# Altium schematic symbol library PCB_Project1.SCHLIB: 29 symbols
Pins are listed as number, name and electrical type; pins without a type are passive.

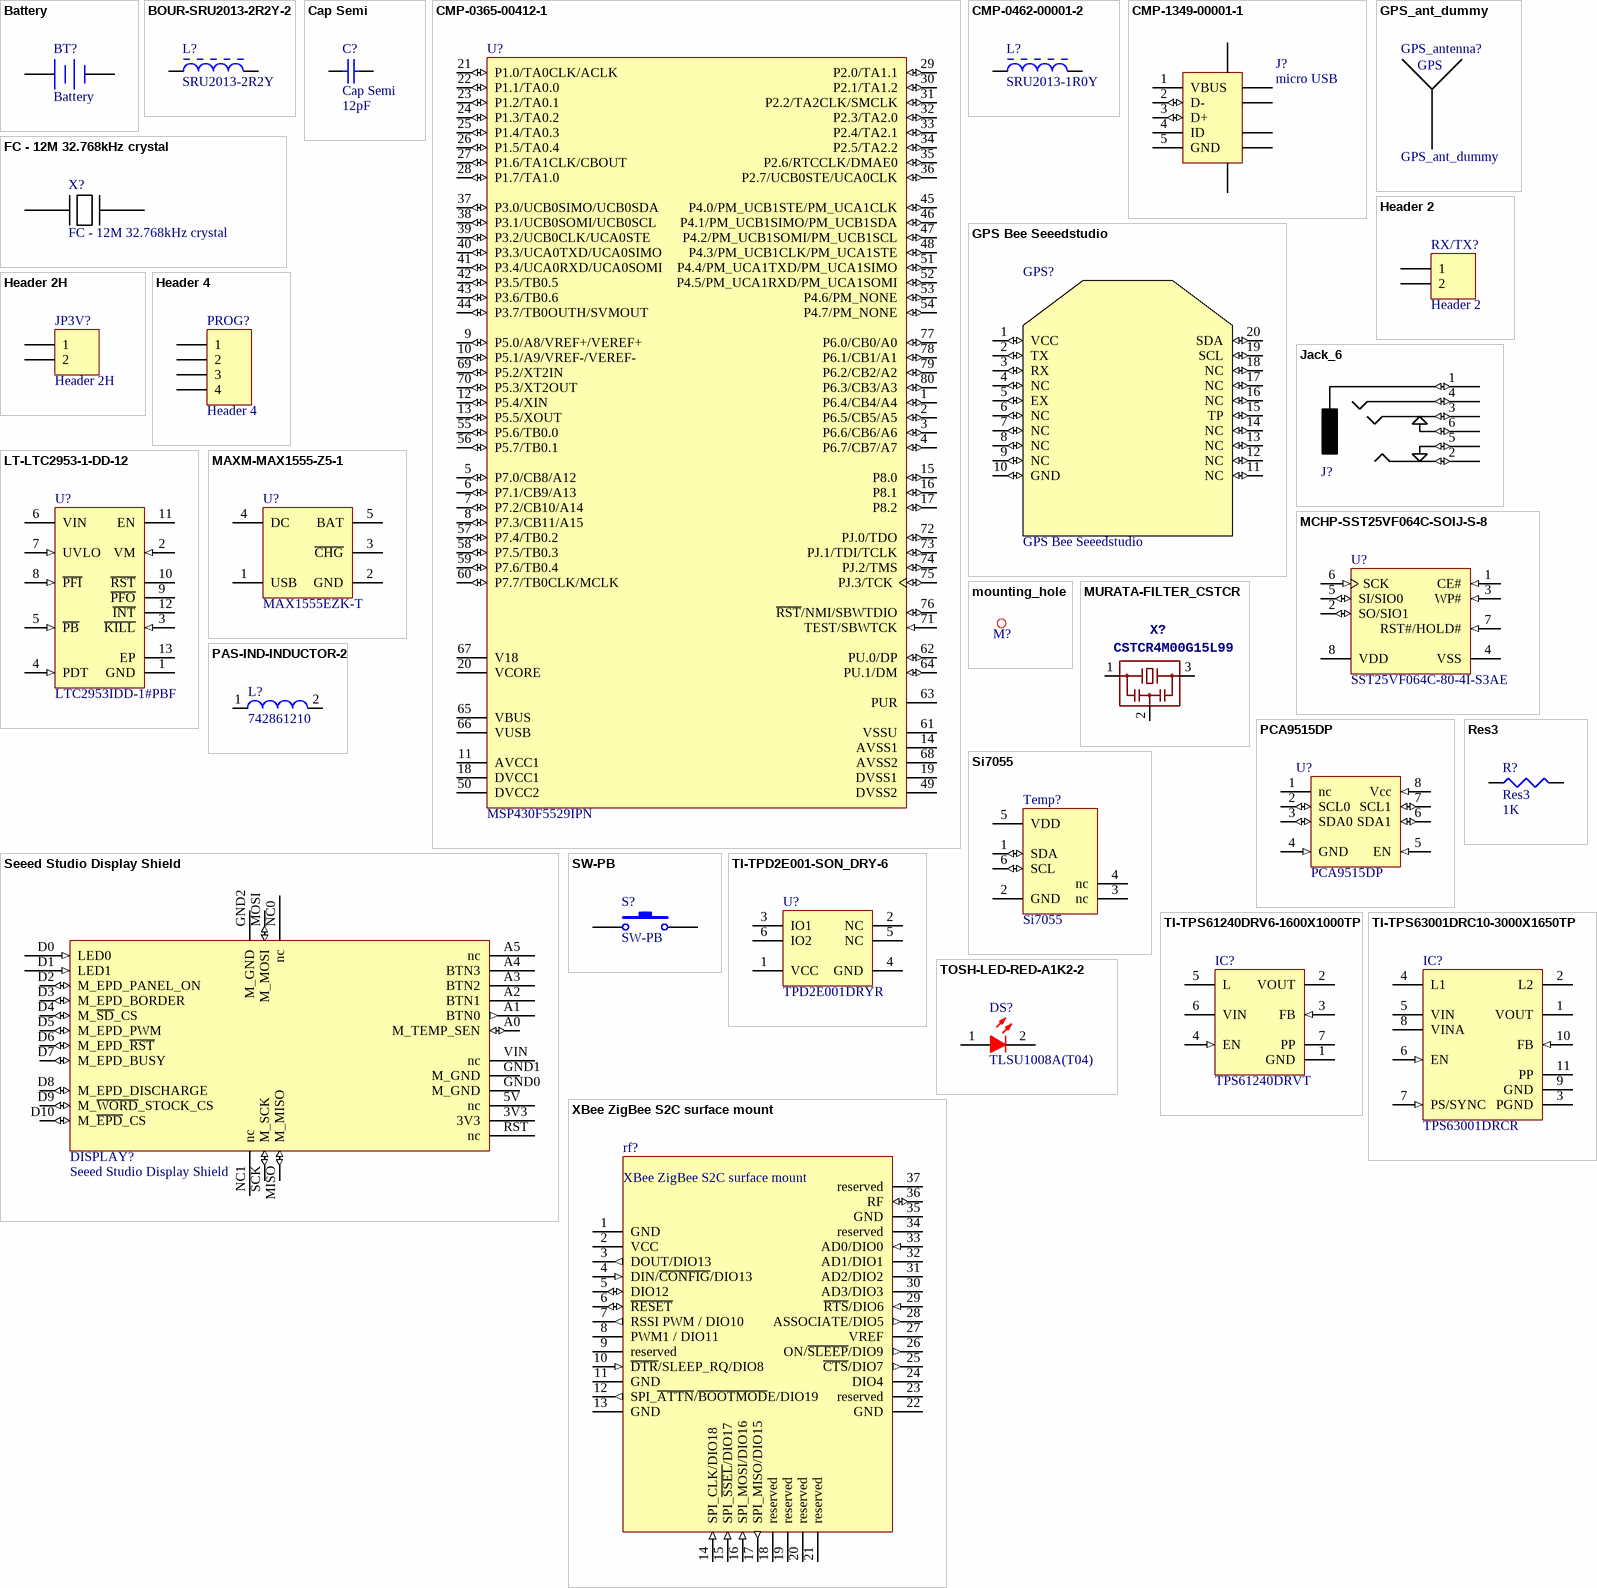
[diagram p0: symbols Battery to XBee ZigBee S2C surface mount]

## Battery
designator BT?
Multicell Battery; Published: 24-Mar-1999; LatestRevisionDate: 17-Jul-2002; LatestRevisionNote: Re-released for DXP Platform.; PackageReference: BAT-2; Publisher: Altium Limited; PackageDescription: Battery; 2 Leads
footprint BAT-2 (Battery; 2 Leads)
pins: 1 +, 2 -

## BOUR-SRU2013-2R2Y-2
designator L?, comment SRU2013-2R2Y
Power Inductor, 2.2 µH, 1.45 Irms Max(A), SMD; Manufacturer: Bourns; Frequency - Self Resonant: 100 MHz; Tolerance: +/-30%; Current Rating: 1.45 A; Inductance: 2.2 uH; DC Resistance (DCR): 120 mOhm Max; Current - Saturation: 950 mA; ComponentLink3URL: http://www.bourns.com/data/global/pdfs/SRU2013.pdf; DatasheetVersion: 2/13/2013; PartNumber: SRU2013-2R2Y; PackageDescription: 2-Pin Hand Drawn, Body 2.8 x 2.8 mm; ComponentLink2URL: http://www.bourns.com/data/global/pdfs/SRU2013.pdf; Mounting Technology: Surface Mount; PackageReference: SRU2013-2R2Y-2; ComponentLink3Description: Package Specification; Operating Temperature: -40 to 125 degC; ComponentLink1URL: http://www.bourns.com; ComponentLink2Description: Datasheet; ComponentLink1Description: Manufacturer URL
footprint BOUR-SRU2013-2R2Y-2_V (Hand Drawn, 2-Leads, Body 2.8x2.8mm)
pins: 1, 2

## Cap Semi
designator C?  value 12pF
Capacitor (Semiconductor SIM Model); Published: 8-Jun-2000; LatestRevisionDate: 29-May-2009; LatestRevisionNote: IPC-7351 Footprint Added.; PackageReference: C1206; Publisher: Altium Limited; PackageDescription: Chip Capacitor
footprint C1206 (Chip Capacitor, Body 3.2x1.6mm, IPC High Density)
footprint 0402 (Chip Capacitor, Body 1.0x0.5mm, IPC High Density)
footprint C2512 (Chip Capacitor, Body 2.54x1.27mm, IPC High Density)
footprint 1608[0603] (Chip Capacitor, Body 1.6x0.8mm, IPC High Density)
footprint C1210 (Chip Capacitor, Body 3.2x2.5mm, IPC High Density)
simulation model CAP (Semiconductor Capacitor)
signal-integrity model Cap Semi
pins: 1, 2

## CMP-0365-00412-1
designator U?, comment MSP430F5529IPN
25 MHz Mixed Signal Microcontroller with 128 KB Flash, 8192 B SRAM and 63 GPIOs, -40 to 85 degC, 80-pin QFP (PN), Green (RoHS & no Sb/Br); Manufacturer: Texas Instruments; Real-Time Clock: Yes; Multiplier: 32x32; Frequency(MHz): 25; USCI_A (UART/LIN/IrDA/SPI): 2; SubFamily: 5 Series; Timers - 16-bit: 4; ADC Channels: 16; GPIO: 63; SRAM(B): 8192; DMA: 3; ADC: 12-bit SAR; Flash(KB): 128; USB: 1; Code_JEDEC: MS-018; ComponentLink1URL: http://www.ti.com/; ComponentLink2URL: http://www.ti.com/general/docs/lit/getliterature.tsp?genericPartNumber=MSP430F5529&fileType=pdf; Brown Out Reset: Yes; SVS: Yes; ComponentLink2Description: Datasheet; Comparators: Yes; ComponentLink3Description: Package Specification; ComponentLink1Description: Manufacturer URL; PackageDescription: 80-Pin Plastic Quad Flat Pack, Body 12 x 12 mm, Pitch 0.5 mm; PartNumber: MSP430F5529IPN; USCI_B (I2C & SPI): 2; PackageReference: PN80; Watchdog: Yes; Temp Sensor: Yes; Eco-Plan: Green (RoHS & no Sb/Br); ComponentLink3URL: http://www.ti.com/lit/ml/mtqf010a/mtqf010a.pdf; Mounting Technology: Surface Mount; DatasheetVersion: SLAS590I
footprint TI-PN80_N (QFP, 80-Leads, Body 12x12mm, Pitch 0.5mm, IPC Medium Density)
pins: 1 P6.4/CB4/A4 (io), 2 P6.5/CB5/A5 (io), 3 P6.6/CB6/A6 (io), 4 P6.7/CB7/A7 (io), 5 P7.0/CB8/A12 (io), 6 P7.1/CB9/A13 (io), 7 P7.2/CB10/A14 (io), 8 P7.3/CB11/A15 (io), 9 P5.0/A8/VREF+/VEREF+ (io), 10 P5.1/A9/VREF-/VEREF- (io), 11 AVCC1 (power) "Analog power supply", 12 P5.4/XIN (io), 13 P5.5/XOUT (io), 14 AVSS1 (power) "Analog ground supply", 15 P8.0 (io) "General-purpose digital I/O", 16 P8.1 (io) "General-purpose digital I/O", 17 P8.2 (io) "General-purpose digital I/O", 18 DVCC1 (power) "Digital power supply", 19 DVSS1 (power) "Digital ground supply", 20 VCORE "Regulated core power supply output (internal use only, no external current loading)", 21 P1.0/TA0CLK/ACLK (io), 22 P1.1/TA0.0 (io), 23 P1.2/TA0.1 (io), 24 P1.3/TA0.2 (io), 25 P1.4/TA0.3 (io), 26 P1.5/TA0.4 (io), 27 P1.6/TA1CLK/CBOUT (io), 28 P1.7/TA1.0 (io), 29 P2.0/TA1.1 (io), 30 P2.1/TA1.2 (io), 31 P2.2/TA2CLK/SMCLK (io), 32 P2.3/TA2.0 (io), 33 P2.4/TA2.1 (io), 34 P2.5/TA2.2 (io), 35 P2.6/RTCCLK/DMAE0 (io), 36 P2.7/UCB0STE/UCA0CLK (io), 37 P3.0/UCB0SIMO/UCB0SDA (io), 38 P3.1/UCB0SOMI/UCB0SCL (io), 39 P3.2/UCB0CLK/UCA0STE (io), 40 P3.3/UCA0TXD/UCA0SIMO (io), 41 P3.4/UCA0RXD/UCA0SOMI (io), 42 P3.5/TB0.5 (io), 43 P3.6/TB0.6 (io), 44 P3.7/TB0OUTH/SVMOUT (io), 45 P4.0/PM_UCB1STE/PM_UCA1CLK (io), 46 P4.1/PM_UCB1SIMO/PM_UCB1SDA (io), 47 P4.2/PM_UCB1SOMI/PM_UCB1SCL (io), 48 P4.3/PM_UCB1CLK/PM_UCA1STE (io), 49 DVSS2 (power) "Digital ground supply", 50 DVCC2 (power) "Digital power supply", 51 P4.4/PM_UCA1TXD/PM_UCA1SIMO (io), 52 P4.5/PM_UCA1RXD/PM_UCA1SOMI (io), 53 P4.6/PM_NONE (io), 54 P4.7/PM_NONE (io), 55 P5.6/TB0.0 (io), 56 P5.7/TB0.1 (io), 57 P7.4/TB0.2 (io), 58 P7.5/TB0.3 (io), 59 P7.6/TB0.4 (io), 60 P7.7/TB0CLK/MCLK (io), 61 VSSU (power) "USB PHY ground supply", 62 PU.0/DP (io), 63 PUR "USB pullup resistor pin (open drain). The voltage level at the PUR pin is used to invoke the default USB BSL. Recommended 1-Mohm resistor to ground.", 64 PU.1/DM (io), 65 VBUS (power) "USB LDO input (connect to USB power source)", 66 VUSB (power) "USB LDO output", 67 V18 "USB regulated power (internal use only, no external current loading)", 68 AVSS2 (power) "Analog ground supply", 69 P5.2/XT2IN (io), 70 P5.3/XT2OUT (io), 71 TEST/SBWTCK (in), 72 PJ.0/TDO (io), 73 PJ.1/TDI/TCLK (io), 74 PJ.2/TMS (io), 75 PJ.3/TCK (io), 76 ~{RST}/NMI/SBWTDIO (io), 77 P6.0/CB0/A0 (io), 78 P6.1/CB1/A1 (io), 79 P6.2/CB2/A2 (io), 80 P6.3/CB3/A3 (io)

## CMP-0462-00001-2
designator L?, comment SRU2013-1R0Y
Power Inductor, 2.2 µH, 1.45 Irms Max(A), SMD; PartNumber: SRU2013-2R2Y; Manufacturer: Bourns; Frequency - Self Resonant: 100 MHz; Tolerance: +/-30%; Current Rating: 2 A; Inductance: 1.0 uH; DC Resistance (DCR): 120 mOhm Max; Current - Saturation: 950 mA; ComponentLink3URL: http://www.bourns.com/data/global/pdfs/SRU2013.pdf; DatasheetVersion: 2/13/2013; PackageDescription: 2-Pin Hand Drawn, Body 2.8 x 2.8 mm; ComponentLink2URL: http://www.bourns.com/data/global/pdfs/SRU2013.pdf; Mounting Technology: Surface Mount; PackageReference: SRU2013-2R2Y-2; ComponentLink3Description: Package Specification; Operating Temperature: -40 to 125 degC; ComponentLink1URL: http://www.bourns.com; ComponentLink2Description: Datasheet; ComponentLink1Description: Manufacturer URL
footprint BOUR-SRU2013-2R2Y-2_V (Hand Drawn, 2-Leads, Body 2.8x2.8mm)
pins: 1, 2

## CMP-1349-00001-1
designator J?, comment micro USB
USB 2.0 Standard Micro-USB Connector, Micro AB-Standard (Bottom Mount), 30 V AC, -30 to 85 degC, Right Angle, 5-Pin 7.5 x 5.6 x 2.8 mm SMD, RoHS, Reel; PartNumber: ZX62D-AB-5P8; Manufacturer: Hirose Electric; Contact Resistance: 30 mOhm Max.; Number of Contacts: 5; Capacitance: 2 pF Max.; Voltage Rating: 30 V AC; Mounting Technology: Surface Mount; ComponentLink2Description: Datasheet; DatasheetVersion: Aug-14; RoHS: TRUE; ComponentLink2URL: http://www.hirose.co.jp/cataloge_hp/ed_ZX_20140804.pdf; Packing: Reel; Operating Temperature Range: -30 to 85 degC; PackageDescription: USB Micro-AB Connector, Right Angle, Body 7.5 x 5.6 mm, Pitch 0.65 mm, Height 2.8 mm; ComponentLink1URL: http://www.hirose.com/; ComponentLink1Description: Manufacturer URL; ComponentLink3URL: http://www.hirose.co.jp/cataloge_hp/ed_ZX_20140804.pdf; ComponentLink3Description: Package Specification
footprint HIRO-ZX62D-AB-5P8_V (USB Micro-AB Connector, 5-Leads, Pitch 0.65mm)
pins: 1 VBUS (power), 2 D- (io), 3 D+ (io), 4 ID, 5 GND (power), 6 SHLD, 7 SHLD, 8 SHLD, 9 SHLD, 10 SHLD, 11 SHLD

## FC - 12M 32.768kHz crystal
designator X?
Epson FC - 12M
footprint FC-12M (Epson kHz range crystal unit)
pins: 1, 2

## GPS Bee Seeedstudio
designator GPS?
footprint GPS bee
pins: 1 VCC (io), 2 TX (io), 3 RX (io), 4 NC (io), 5 EX (io), 6 NC (io), 7 NC (io), 8 NC (io), 9 NC (io), 10 GND (io), 11 NC (io), 12 NC (io), 13 NC (io), 14 NC (io), 15 TP (io), 16 NC (io), 17 NC (io), 18 NC (io), 19 SCL (io), 20 SDA (io)

## GPS_ant_dummy
designator GPS_antenna?
footprint GPS_ant_dummy
text: GPS

## Header 2
designator RX/TX?
Header, 2-Pin; LatestRevisionDate: 17-Jul-2002; LatestRevisionNote: Re-released for DXP Platform.; Publisher: Altium Limited
footprint HDR1X2 (Connector; Header; 2 Position)
signal-integrity model Connector
pins: 1, 2

## Header 2H
designator JP3V?
Header, 2-Pin, Right Angle; LatestRevisionDate: 17-Jul-2002; LatestRevisionNote: Re-released for DXP Platform.; Publisher: Altium Limited
footprint HDR1X2H (Connector; Header; 2 Position; Right Angle)
signal-integrity model Connector
pins: 1, 2

## Header 4
designator PROG?
Header, 4-Pin; LatestRevisionDate: 17-Jul-2002; LatestRevisionNote: Re-released for DXP Platform.; Publisher: Altium Limited
footprint HDR1X4 (Connector; Header; 4 Position)
signal-integrity model Connector
pins: 1, 2, 3, 4

## Jack_6
designator J?  (value not drawn)
4 pin 6 contact headphone jack 3.5mm
footprint Jack_6_socket (jack with 8 connectors Seeed SKU 32004003 (ST-PJ-930A))
pins: 1 sleeve (io), 2 tip (io), 3 ring 1 (io), 4 ring 2 (io), 5 tip switch (io), 6 ring 1 switch (io)

## LT-LTC2953-1-DD-12
designator U?, comment LTC2953IDD-1#PBF
Push Button On / Off Controller with Voltage Monitoring, 12-pin SON (DD-12), -40 to 85 degC, Pb-Free; Manufacturer: Linear Technology; Number of Supplies(#): 1; ComponentLink2URL: http://cds.linear.com/docs/en/datasheet/2953f.pdf; PackageReference: DD-12; ComponentLink2Description: Datasheet; ComponentLink1Description: Manufacturer URL; PackageDescription: 12-Pin Plastic DFN, Body 3 x 3 mm, Pitch 0.45 mm; RoHS: TRUE; ComponentLink3URL: http://cds.linear.com/docs/en/packaging/DFN_12_05-08-1725.pdf; ComponentLink3Description: Package Specification; PackageVersion: Rev. A, 06/2010; PartNumber: LTC2953IDD-1#PBF; ComponentLink1URL: http://www.linear.com/; Mounting Technology: Surface Mount
footprint LT-DD-12_V (SON, 12-Leads, Body 3x3mm, Pitch 0.45mm, Thermal Pad 2.38x1.65mm)
pins: 1 GND (power) "Ground", 2 VM (in) "Voltage Monitor Input. Input to an accurate comparator with a 0.5V threshold. VM controls the state of the R\S\T\ output pin and is independent of P\B\, P\F\I\ and UVLO status. A voltage below 0.5V on this pin asserts R\S\T\ (See Datasheet)", 3 ~{KILL} (in) "K\I\L\L\ Input. Forcing K\I\L\L\ low releases the enable output. During system turn on, this pin is blanked by a 512ms internal timer (tKILL, ON BLANK) to allow the system to pull K\I\L\L\ high. This pin has an accurate 0.6V (See Datasheet)", 4 PDT (in) "Power Down Time Input. A capacitor to ground determines the additional time (6.4 seconds/uF) that P\B\ or UVLO must be held low before releasing the EN/E\N\ and I\N\T\ outputs. If this pin is left open, the power down delay (See Datasheet)", 5 ~{PB} (in) "Push Button Input. Connecting P\B\ to ground through a momentary switch provides On/Off control via the EN/E\N\ and I\N\T\ outputs. An internal 100k pull-up resistor connects to an internal 1.9V bias voltage. The rugged P\B\ (See Datasheet)", 6 VIN (power) "Power Supply Input: 2.7V to 27V.", 7 UVLO (in) "UVLO Comparator Input. When UVLO drops below its falling threshold (0.5V) for more than 32ms, the LTC2953 asserts I\N\T\ low, thereby requesting a system power down. If UVLO remains below its falling threshold (0.5V) for (See Datasheet)", 8 ~{PFI} (in) "Power Fail Comparator Input. Input to an accurate comparator with a 0.5V falling threshold and 4mV of hysteresis. P\F\I\ controls the state of the P\F\O\ output pin and is independent of P\B\, VM and UVLO status. Connect to (See Datasheet)", 9 ~{PFO} (hiz) "Power Fail Output. This pin is a high voltage open drain pull-down. P\F\O\ pulls low when P\F\I\ is below 0.5V. Open circuit when unused.", 10 ~{RST} (oc) "Reset Output. This pin is an open drain pull-down. Pulls low when VM input is below 0.5V and is held low for 200ms after VM input is above 0.5V. Open circuit when unused.", 11 EN (oc) "Open Drain Enable Output. This output is intended to enable system power. EN is asserted high after a valid P\B\ turn on event (tDB, ON). EN is released low if: a) K\I\L\L\ is not driven high (by uP) within 512ms of the (See Datasheet)", 12 ~{INT} (oc) "Open Drain Interrupt Output. After a turn off event is detected (tDB, OFF) from P\B\ or UVLO, the LTC2953 interrupts the system (uP) by asserting I\N\T\ low. The uP would perform power down and housekeeping tasks and then (See Datasheet)", 13 EP (power) "Exposed Pad may be left open or connected to ground."

## MAXM-MAX1555-Z5-1
designator U?, comment MAX1555EZK-T
Dual-Input USB/AC Adapter 1-Cell Li+ Battery Charger, 4.2 V Charger Voltage, 0.28 A DC Charging Current, 5-Pin SOT23 Package, Tape and Reel; Manufacturer: Maxim; ICHG Typ: 0.28 A; Max Protected VIN (V): 7; Charger (V): 4.2; Lithium Ion Cells: 1; ComponentLink1Description: Manufacturer URL; Operating Temperature Range: -40 to 85 degC; PackageDescription: 5-Pin Thin SOT23, Body 2.9 x 1.6 mm, Pitch 0.95 mm; Mounting Technology: Surface Mount; PartNumber: MAX1555EZK-T; Package: SOT-23; Max Charging VIN (V): 7; ComponentLink2URL: http://datasheets.maximintegrated.com/en/ds/MAX1551-MAX1555.pdf; DatasheetVersion: Rev. 0; Packing: Tape and Reel; ComponentLink3Description: Package Specification; ComponentLink2Description: Datasheet; ComponentLink3URL: http://pdfserv.maximintegrated.com/package_dwgs/21-0113.PDF; PackageReference: Z5-1; PackageVersion: Rev. D; ComponentLink1URL: http://www.maximintegrated.com/
footprint MAXM-Z5-1_N (SOT23, 5-Leads, Body 3x1.65mm, Pitch 0.95mm, IPC Medium Density)
footprint MAXM-Z5-1_L (SOT23, 5-Leads, Body 3x1.65mm, Pitch 0.95mm, IPC High Density)
footprint MAXM-Z5-1_M (SOT23, 5-Leads, Body 3x1.65mm, Pitch 0.95mm, IPC Low Density)
pins: 1 USB (power) "USB Port Charger Supply Input. USB draws up to 100mA to charge the battery. Decouple USB with a 1µF  ceramic capacitor to GND.", 2 GND (power) "Ground", 3 ~{CHG} (hiz) "Active-Low Open-Drain Charge Status Indicator. C\H\G\ pulls low when the battery is charging. C\H\G\ goes to a  high-impedance state, indicating the battery is fully charged, when the charger is in voltage mode and  charge current falls below 50mA. C\H\G", 4 DC (power) "DC Charger Supply Input for an AC Adapter. DC draws 280mA to charge the battery. Decouple DC with a  1µF ceramic capacitor to GND.", 5 BAT (power) "Battery Connection. Decouple BAT with a 1µF ceramic capacitor to GND."

## MCHP-SST25VF064C-SOIJ-S-8
designator U?, comment SST25VF064C-80-4I-S3AE
64 Mbit SPI Serial Flash, 2.7 to 3.6 V, 80 MHz, -40 to 85 degC, 8-pin SOIC (S3A8), Tube; Manufacturer: Microchip; ComponentLink2URL: http://ww1.microchip.com/downloads/en/DeviceDoc/25036B.pdf; ComponentLink3URL: http://ww1.microchip.com/downloads/en/DeviceDoc/25036B.pdf; PackageDescription: 8-Lead Small Outline, 7.21 x 5.28 mm Body, 1.27 mm Pitch; ComponentLink4Description: Product URL; PartNumber: SST25VF064C-80-4I-S3AE; PackageVersion: Rev. B; ComponentLink2Description: Datasheet; DatasheetVersion: Rev. B; ComponentLink4URL: http://www.microchip.com/SST25VF064C; PackageReference: SOIC-S3A8; Mounting Technology: Surface Mount; ComponentLink1Description: Manufacturer URL; ComponentLink3Description: Package Specification; ComponentLink1URL: http://www.microchip.com
footprint MCHP-SOIC-S3A8_M (SOIC, 8-Leads, Body 7.21x5.28mm, Pitch 1.27mm, IPC Low Density)
footprint MCHP-SOIC-S3A8_N (SOIC, 8-Leads, Body 7.21x5.28mm, Pitch 1.27mm, IPC Medium Density)
footprint MCHP-SOIC-S3A8_L (SOIC, 8-Leads, Body 7.21x5.28mm, Pitch 1.27mm, IPC High Density)
pins: 1 CE# (in) "The device is enabled by a high to low transition on CE#. CE# must remain low for the duration of any command sequence.", 2 SO/SIO1 (io) "To transfer data serially out of the device.To transfer commands, addresses, or data serially into the device, or data out of the device. Inputs are latched on the rising edge of the serial clock. Data is shifted out on the (See Datasheet)", 3 WP# (in) "The Write Protect (WP#) pin is used to enable/disable BPL bit in the status register.", 4 VSS (power) "Ground", 5 SI/SIO0 (io) "To transfer commands, addresses, or data serially into the device.To transfer commands, addresses, or data serially into the device, or data out of the device. Inputs are latched on the rising edge of the serial clock. Data (See Datasheet)", 6 SCK (in) "To provide the timing of the serial interface. Commands, addresses, or input data are latched on the rising edge of the clock input, while output data is shifted out on the falling edge of the clock input.", 7 RST#/HOLD# (in) "To reset the operation of the device and the internal logic. The device powers on with RST# pin functionality as default.To temporarily stop serial communication with SPI Flash memory while device is selected. This is (See Datasheet)", 8 VDD (power) "To provide power supply voltage: 2.7-3.6V"

## mounting_hole
designator M?, comment mounting hole  (value not drawn)
footprint MOUNTING_HOLE

## MURATA-FILTER_CSTCR
designator X?, comment CSTCR4M00G15L99
<b>Resonator</b><p> / Source: murata.co.jp
footprint MURATA-FILTER_CSTCR
footprint CSTCR_G15L
pins: 1, 2, 3

## PAS-IND-INDUCTOR-2
designator L?, comment 742861210
SMD EMI Suppression Ferrite Bead WE-CBF HF, Z = 1000 Ohm; PackageDescription: Chip Inductor, 2-Leads, Body 1.6 x 0.8 mm; PackageReference: SMD-0603; DatasheetVersion: ver 2, Aug-2009; ComponentLink2Description: Datasheet; ComponentLink1Description: Manufacturer Link; Impedance: 1000 Ohm; PackageVersion: 2009; ComponentLink2URL: http://www.we-online.de/katalog/media/pdf/742861210.pdf; ComponentLink1URL: http://www.we-online.com
footprint SMD-0603 (Chip Inductor, 2-Leads, Body 1.6x0.8x0.95 mm)
pins: 1, 2

## PCA9515DP
designator U?
PCA9515 I2C logic level converter
footprint TSOP65P490X110-8N (TSOP, 8-Leads, Body 3.00x3.00mm, Pitch 0.65mm, IPC Medium Density)
pins: 1 nc, 2 SCL0 (io), 3 SDA0 (io), 4 GND (in), 5 EN (in), 6 SDA1 (io), 7 SCL1 (io), 8 Vcc (in)

## Res3
designator R?  value 1K
Resistor; Published: 8-Jun-2000; LatestRevisionDate: 29-May-2009; LatestRevisionNote: IPC-7351 Footprint Added.; PackageReference: J1-0603; Publisher: Altium Limited; PackageDescription: Chip Resistor
footprint J1-0603 (Chip Resistor, Body 1.6x0.8mm, IPC High Density)
footprint 14-1210 (Chip Resistor, Body 3.2x2.5mm, IPC High Density)
footprint 12Z-2010 (Chip Resistor, Body 5.0x2.5mm, IPC High Density)
footprint RESC6332 (Chip Resistor, Body 6.3x3.2mm, IPC High Density)
simulation model RESISTOR (Resistor)
signal-integrity model Res
pins: 1, 2

## Seeed Studio Display Shield
designator DISPLAY?
footprint Display shield
pins: 3V3 (power), 5V nc, A0 M_TEMP_SEN (io), A1 BTN0 (out), A2 BTN1, A3 BTN2, A4 BTN3, A5 nc, D0 LED0 (in), D1 LED1 (in), D2 M_EPD_PANEL_ON (io), D3 M_EPD_BORDER (io), D4 M_~{SD}_CS (io), D5 M_EPD_PWM (io), D6 M_EPD_~{RST} (io), D7 M_EPD_BUSY (io), D8 M_EPD_DISCHARGE (io), D9 M_~{WORD}_STOCK_CS (io), D10 M_~{EPD}_CS (io), GND0 M_GND (power), GND1 M_GND (power), GND2 M_GND (power), MISO M_MISO (io), MOSI M_MOSI (io), NC0 nc, NC1 nc, RST nc, SCK M_SCK (io), VIN nc

## Si7055
designator Temp?
footprint Si7050/3/4/5 (I2C Temperature sensor SON, 6-Leads, Body 3.00x3.00mm, Pitch 1.00mm, Thermal Pad 2.40x1.50mm, IPC Medium Density)
pins: 1 SDA (io), 2 GND (power), 3 nc, 4 nc, 5 VDD (power), 6 SCL (io)

## SW-PB
designator S?
Switch; Published: 24-Mar-1999; LatestRevisionDate: 17-Jul-2002; LatestRevisionNote: Re-released for DXP Platform.; PackageReference: SPST-2; Publisher: Altium Limited; PackageDescription: Switch; 2 Leads
footprint SPST-2 (Switch; 2 Leads)
pins: 1, 2

## TI-TPD2E001-SON_DRY-6
designator U?, comment TPD2E001DRYR
Low-Capacitance + / - 15 kV ESD-Protection Array for High-Speed Data Interfaces, 2 Channels, -40 to +85 degC, 6-pin SON (DRY), Green (RoHS & no Sb/Br); Manufacturer: Texas Instruments; SubFamily: ESD Solution; IEC 61000-4-2 Air-Gap(+/- kV): 15; IO Capacitance(Typ)(pF): 1.5; Breakdown Voltage(Min)(V): 11; IO Leakage Current(nA): 1; IEC 61000-4-2 Contact(+/- kV): 8; USB High Speed: TRUE; ComponentLink2URL: SamplesURL:http://www.ti.com/product/tpd2e001#samples; Mounting Technology: Surface Mount; ComponentLink1URL: http://www.ti.com/general/docs/lit/getliterature.tsp?genericPartNumber=TPD2E001&fileType=pdf; PackageVersion: revF, Dec-2011; PackageReference: DRY6; Eco-Plan: Green (RoHS & no Sb/Br); ComponentLink2Description: URL Link1; PartNumber: TPD2E001DRYR; DatasheetVersion: SLLS684F; PackageDescription: 6-Pin Plastic Small Outline No-Lead, 1 x 1.45 x 0.6 mm Body, 0.5 mm Pitch; ComponentLink1Description: Datasheet
footprint DRY6 (PSON, 6-Leads, Body 1x1.45mm, Pitch 0.5mm, TI Recommended)
pins: 1 VCC (power) "Power-supply input. Bypass VCC to GND with a 0.1-uF ceramic capacitor.", 2 NC "No connection. Not internally connected.", 3 IO1 "ESD-protected channel", 4 GND (power) "Ground", 5 NC "No connection. Not internally connected.", 6 IO2 "ESD-protected channel"

## TI-TPS61240DRV6-1600X1000TP
designator IC?, comment TPS61240DRVT
Boost Voltage Converter with 2.3 to 5.5 V Input and 5 V Output, 6-Pin SON (DRV), Green (RoHS & no Sb/Br); Manufacturer: Texas Instruments; Regulated Outputs(#): 1; Vin(Max)(V): 5.5; Vout(Min)(V): 5; SubFamily: Step-Up Regulator; Synchronous Rectification: TRUE; Switching Frequency(Max)(kHz): 4000; Vin(Min)(V): 2.3; ComponentLink1URL: http://www.ti.com/general/docs/lit/getliterature.tsp?genericPartNumber=TPS61240&fileType=pdf; PackageReference: DRV6-1600X1000TP; Topology: Boost; Mounting Technology: Surface Mount; PackageVersion: revE, Oct-2010; Eco-Plan: Green (RoHS & no Sb/Br); DatasheetVersion: SLVS806B; Vout(Max)(V): 5; PartNumber: TPS61240DRVT; PackageDescription: 6-Pin Plastic Small Outline No-Lead, 2 x 2 x 0.8 mm Body, 0.65 mm Pitch, Exposed Pad; ComponentLink1Description: Datasheet; Preset Vout(V): 5; ComponentLink2URL: http://www.ti.com/litv/pdf/mpds216d; ComponentLink2Description: Package Specification
footprint DRV6-1600X1000TP (SON, 6-Leads, Body 2x2mm, Pitch 0.65mm, Thermal Pad 1.6x1mm, TI Recommended)
pins: 1 GND (power) "Ground", 2 VOUT (power) "Output", 3 FB (in) "Feedback input", 4 EN (in) "Enable", 5 L (power) "Boost and rectifying switch input", 6 VIN (power) "Supply voltage", 7 PP (power) "Exposed thermal pad"

## TI-TPS63001DRC10-3000X1650TP
designator IC?, comment TPS63001DRCR
Buck-Boost Voltage Converter with 1.8 to 5.5 V Input and 3.3 V Output, -40 to 85 degC, 10-Pin SON (DRC), Green (RoHS & no Sb/Br); Manufacturer: Texas Instruments; Regulated Outputs(#): 1; Preset Vout(V): 3.3; SubFamily: Buck-Boost Regulator; Iq(Typ)(mA): 0.03; Dynamic Voltage Scaling: TRUE; Vin(Max)(V): 5.5; Vin(Min)(V): 1.8; Switching Frequency(Max)(kHz): 1500; Iout(Max)(A): 1.2; ComponentLink1URL: http://www.ti.com/general/docs/lit/getliterature.tsp?genericPartNumber=TPS63001&fileType=pdf; PartNumber: TPS63001DRCR; PackageDescription: 10-Pin Plastic Small Outline No-Lead, 3 x 3 x 1 mm Body, 0.5 mm Pitch, Exposed Pad; Vout(Min)(V): 3.3; PackageReference: DRC10-2400X1650TP; Topology: Buck-Boost; ComponentLink2Description: Package Specification; Eco-Plan: Green (RoHS & no Sb/Br); PackageVersion: revL, Sep-2011; ComponentLink2URL: http://www.ti.com/litv/pdf/mpds117k; Mounting Technology: Surface Mount; ComponentLink1Description: Datasheet; DatasheetVersion: SLVS520B; Synchronous Rectification: TRUE; Vout(Max)(V): 3.3
footprint DRC10-2400X1650TP (SON, 10-Leads, Body 3x3mm, Pitch 0.5mm, Thermal Pad 2.4x1.65mm, TI Recommended)
pins: 1 VOUT (power) "Buck-boost converter output", 2 L2 "Connection for Inductor", 3 PGND (power) "Power ground", 4 L1 "Connection for Inductor", 5 VIN (power) "Supply voltage for power stage", 6 EN (in) "Enable input. (1 enabled, 0 disabled)", 7 PS/SYNC (in) "Enable / disable power save mode (1 disabled, 0 enabled, clock signal for synchronization)", 8 VINA (power) "Supply voltage for control stage", 9 GND (power) "Control / logic ground", 10 FB (in) "Voltage feedback of adjustable versions, must be connected to VOUT on fixed output voltage versions", 11 PP (power) "Must be soldered to achieve appropriate power dissipation. Should be connected to PGND."

## TOSH-LED-RED-A1K2-2
designator DS?, comment TLSU1008A(T04)
LED, Red 0603 (1608) 63mCd; Manufacturer: Toshiba; Forward Current: 25 mA; Power Dissipation: 60 mW; Packing Type: Reel; Reverse Voltage: 4 V; Mounting Technology: Surface Mount; PackageDescription: 2-Pin SMT LED, 1.6 x 0.8 mm Pitch; ComponentLink1URL: http://www.toshiba-components.com/; ComponentLink1Description: Manufacturer URL; PackageReference: 0603LED_RED; PartNumber: TLSU1008A(T04); ComponentLink2URL: http://www.semicon.toshiba.co.jp/info/docget.jsp?type=datasheet&lang=en&pid=TLSU1008A(T04); ComponentLink2Description: Datasheet; DatasheetVersion: Aug-08; Storage Temperature: -40 to 100 degC
footprint TOSH-0603LED_RED_V (SMT LED, 2-Leads, Body 1.6x0.8mm (0603-Size))
pins: 1 A, 2 K

## XBee ZigBee S2C surface mount
designator rf?
footprint S2C XBEE
pins: 1 GND (power), 2 VCC (power), 3 DOUT/DIO13 (out), 4 DIN/~{CONFIG}/DIO13 (in), 5 DIO12 (io), 6 ~{RESET} (io), 7 RSSI PWM / DIO10 (out), 8 PWM1 / DIO11, 9 reserved, 10 ~{DTR}/SLEEP_RQ/DIO8 (in), 11 GND (power), 12 SPI_~{ATTN}/~{BOOTMOD}E/DIO19 (out), 13 GND (power), 14 SPI_CLK/DIO18 (in), 15 SPI_~{SSEL}/DIO17 (in), 16 SPI_MOSI/DIO16 (in), 17 SPI_MISO/DIO15 (out), 18 reserved, 19 reserved, 20 reserved, 21 reserved, 22 GND (power), 23 reserved, 24 DIO4, 25 ~{CTS}/DIO7 (out), 26 ON/~{SLEEP}/DIO9 (out), 27 VREF (power), 28 ASSOCIATE/DIO5 (out), 29 ~{RTS}/DIO6 (in), 30 AD3/DIO3, 31 AD2/DIO2, 32 AD1/DIO1, 33 AD0/DIO0 (in), 34 reserved, 35 GND (power), 36 RF (io), 37 reserved